# Altium footprint library GechoBreakout.PcbLib: 3 footprints
Each footprint in its own frame and in the unit in brackets; x right, y up, seen from the top. Pads: shape width x height; smd on the part's side, far side on the other; paste and mask are expansions set on the pad; w line width, h text height; cw(c..) or ccw(c..) is an arc to the next point about the centre after c.
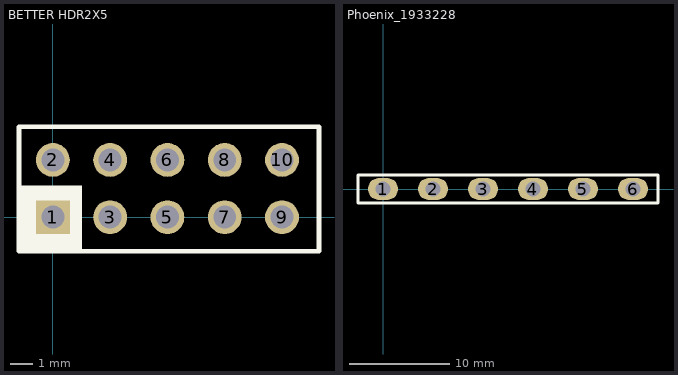
[diagram p0: the footprints below, top view; thin cyan lines are the x and y axes]

## BETTER HDR2X5 [mm] "Connector; Header; 5x2 Position"
pads (10):
  rect 1.5x1.5 hole 1.016: 1(0,0)
  round 1.5 hole 1.016: 2(0,2.54) 3(2.54,0) 4(2.54,2.54) 5(5.08,0) 6(5.08,2.54) 7(7.62,0) 8(7.62,2.54) 9(10.16,0) 10(10.16,2.54)
Top Overlay:
  rectangle: -1.5,-1.5 1.3,1.4
  lines w0.2: -1.5,-1.5 11.8,-1.5 11.8,4 -1.5,4 -1.5,-1.5

## PCBComponent_1 [mm]

## Phoenix_1933228 [mm] "Phoenix Contact 5mm Pin Header"
pads (6):
  oval 3x2.2 hole 1.5: 1(0,0) 2(5,0) 3(10,0) 4(15,0) 5(20,0) 6(25,0)
Top Overlay:
  lines w0.254: -2.5,-1.4 27.5,-1.4 27.5,0 27.5,1.4 -2.5,1.4 -2.5,0 -2.5,-1.4